# Altium schematic symbol library NxtPX4.SchLib: 37 symbols
Pins are listed as number, name and electrical type; pins without a type are passive.

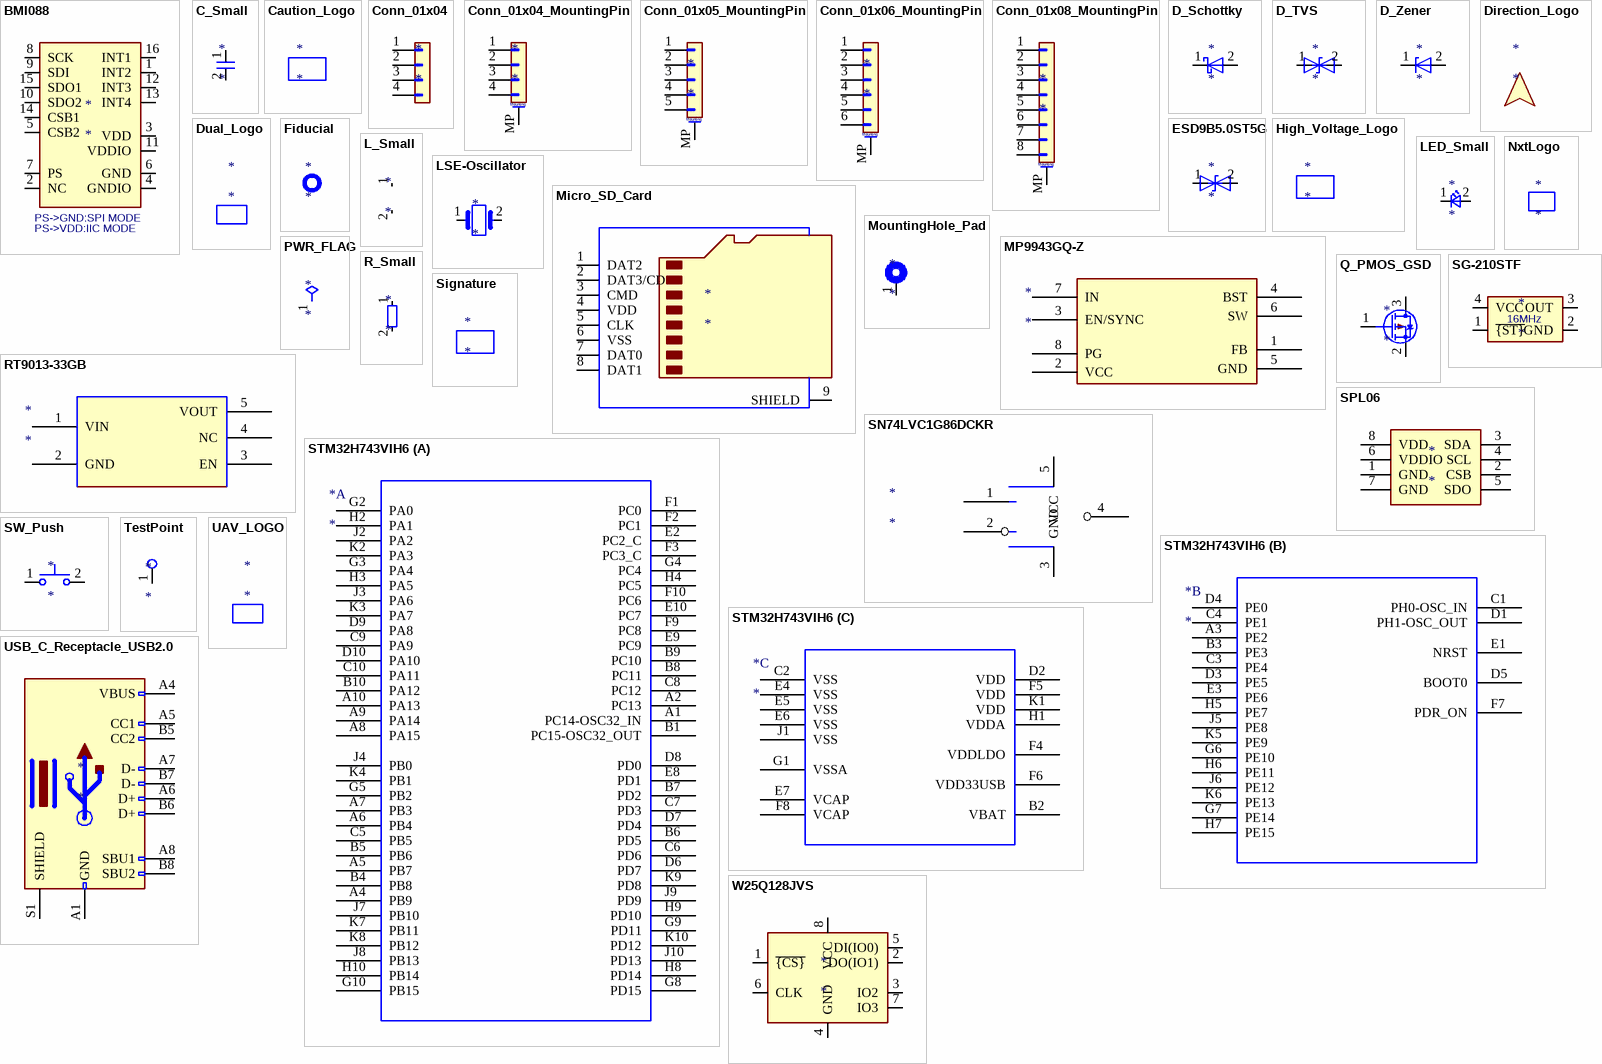
[diagram p0: symbols BMI088 to W25Q128JVS]

## BMI088
designator *
pins: 1 INT2, 2 NC, 3 VDD, 4 GNDIO, 5 CSB2, 6 GND, 7 PS, 8 SCK, 9 SDI, 10 SDO2, 11 VDDIO, 12 INT3, 13 INT4, 14 CSB1, 15 SDO1, 16 INT1
text: PS->GND:SPI MODE; PS->VDD:IIC MODE

## C_Small
designator *
pins: 1, 2

## Caution_Logo
designator *

## Conn_01x04
designator *
pins: 1 Pin_1, 2 Pin_2, 3 Pin_3, 4 Pin_4

## Conn_01x04_MountingPin
designator *
pins: 1 Pin_1, 2 Pin_2, 3 Pin_3, 4 Pin_4, MP MountPin
text: Mounting

## Conn_01x05_MountingPin
designator *
pins: 1 Pin_1, 2 Pin_2, 3 Pin_3, 4 Pin_4, 5 Pin_5, MP MountPin
text: Mounting

## Conn_01x06_MountingPin
designator *
pins: 1 Pin_1, 2 Pin_2, 3 Pin_3, 4 Pin_4, 5 Pin_5, 6 Pin_6, MP MountPin
text: Mounting

## Conn_01x08_MountingPin
designator *
pins: 1 Pin_1, 2 Pin_2, 3 Pin_3, 4 Pin_4, 5 Pin_5, 6 Pin_6, 7 Pin_7, 8 Pin_8, MP MountPin
text: Mounting

## D_Schottky
designator *
pins: 1 K, 2 A

## D_TVS
designator *
pins: 1 A1, 2 A2

## D_Zener
designator *
pins: 1 K, 2 A

## Direction_Logo
designator *

## Dual_Logo
designator *

## ESD9B5.0ST5G
designator *
pins: 1 A1, 2 A2

## Fiducial
designator *

## High_Voltage_Logo
designator *

## L_Small
designator *
pins: 1, 2

## LED_Small
designator *
pins: 1 K, 2 A

## LSE-Oscillator
designator *
pins: 1, 2

## Micro_SD_Card
designator *
pins: 1 DAT2, 2 DAT3/CD, 3 CMD, 4 VDD, 5 CLK, 6 VSS, 7 DAT0, 8 DAT1, 9 SHIELD

## MountingHole_Pad
designator *
pins: 1

## MP9943GQ-Z
designator *
pins: 1 FB, 2 VCC, 3 EN/SYNC, 4 BST, 5 GND, 6 SW, 7 IN, 8 PG

## NxtLogo
designator *

## PWR_FLAG
designator *  (graphical)
pins: 1 pwr

## Q_PMOS_GSD
designator *
pins: 1 G, 2 S, 3 D

## R_Small
designator *
pins: 1, 2

## RT9013-33GB
designator *
pins: 1 VIN, 2 GND, 3 EN, 4 NC, 5 VOUT

## SG-210STF
designator *
pins: 1 ~{{ST}}, 2 GND, 3 OUT, 4 VCC
text: 16MHz

## Signature
designator *

## SN74LVC1G86DCKR
designator *
pins: 1, 2, 3 GND, 4, 5 VCC

## SPL06
designator *
pins: 1 GND, 2 CSB, 3 SDA, 4 SCL, 5 SDO, 6 VDDIO, 7 GND, 8 VDD

## STM32H743VIH6
designator *
part A pins: A1 PC14-OSC32_IN, A2 PC13, A4 PB9, A5 PB7, A6 PB4, A7 PB3, A8 PA15, A9 PA14, A10 PA13, B1 PC15-OSC32_OUT, B4 PB8, B5 PB6, B6 PD5, B7 PD2, B8 PC11, B9 PC10, B10 PA12, C5 PB5, C6 PD6, C7 PD3, C8 PC12, C9 PA9, C10 PA11, D6 PD7, D7 PD4, D8 PD0, D9 PA8, D10 PA10, E2 PC2_C, E8 PD1, E9 PC9, E10 PC7, F1 PC0, F2 PC1, F3 PC3_C, F9 PC8, F10 PC6, G2 PA0, G3 PA4, G4 PC4, G5 PB2, G8 PD15, G9 PD11, G10 PB15, H2 PA1, H3 PA5, H4 PC5, H8 PD14, H9 PD10, H10 PB14, J2 PA2, J3 PA6, J4 PB0, J7 PB10, J8 PB13, J9 PD9, J10 PD13, K2 PA3, K3 PA7, K4 PB1, K7 PB11, K8 PB12, K9 PD8, K10 PD12
part B pins: A3 PE2, B3 PE3, C1 PH0-OSC_IN, C3 PE4, C4 PE1, D1 PH1-OSC_OUT, D3 PE5, D4 PE0, D5 BOOT0, E1 NRST, E3 PE6, F7 PDR_ON, G6 PE10, G7 PE14, H5 PE7, H6 PE11, H7 PE15, J5 PE8, J6 PE12, K5 PE9, K6 PE13
part C pins: B2 VBAT, C2 VSS, D2 VDD, E4 VSS, E5 VSS, E6 VSS, E7 VCAP, F4 VDDLDO, F5 VDD, F6 VDD33USB, F8 VCAP, G1 VSSA, H1 VDDA, J1 VSS, K1 VDD

## SW_Push
designator *
pins: 1, 2

## TestPoint
designator *
pins: 1

## UAV_LOGO
designator *

## USB_C_Receptacle_USB2.0
designator *
pins: A1 GND, A4 VBUS, A5 CC1, A6 D+, A7 D-, A8 SBU1, A9 VBUS hidden, A12 GND hidden, B1 GND hidden, B4 VBUS hidden, B5 CC2, B6 D+, B7 D-, B8 SBU2, B9 VBUS hidden, B12 GND hidden, S1 SHIELD

## W25Q128JVS
designator *
pins: 1 ~{{CS}}, 2 DO(IO1), 3 IO2, 4 GND, 5 DI(IO0), 6 CLK, 7 IO3, 8 VCC